# Altium footprint library IC.PcbLib: 24 footprints (part 2 of 2)
Each footprint in its own frame and in the unit in brackets; x right, y up, seen from the top. Pads: shape width x height; smd on the part's side, far side on the other; paste and mask are expansions set on the pad; w line width, h text height; cw(c..) or ccw(c..) is an arc to the next point about the centre after c.
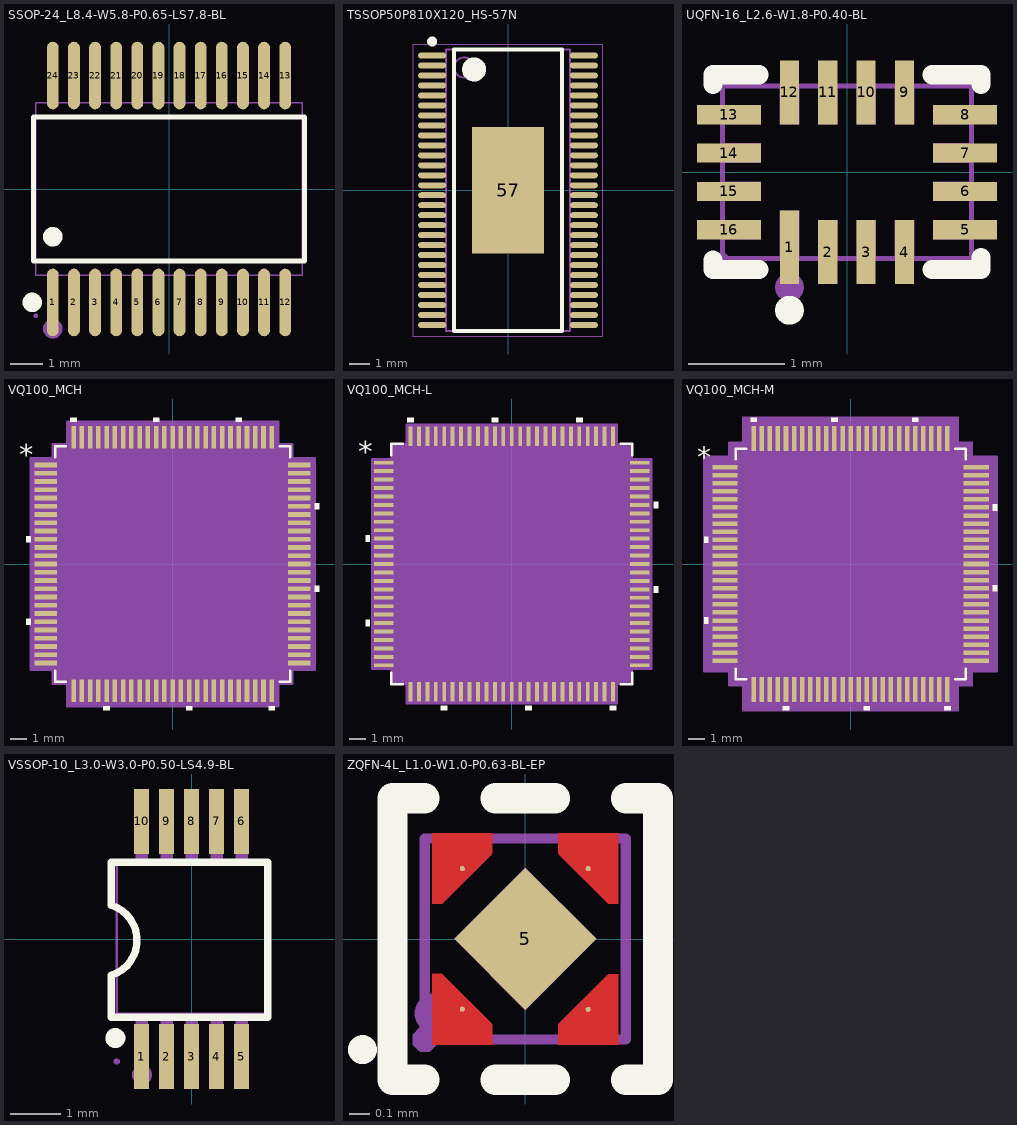
[diagram p1: the footprints below, top view; thin cyan lines are the x and y axes]

## SSOP-24_L8.4-W5.8-P0.65-LS7.8-BL [mm] "TB6612FNG"
pads (24):
  oval 0.364x2.082 smd mask+0.051: 1(-3.575,-3.491) 2(-2.925,-3.491) 3(-2.275,-3.491) 4(-1.625,-3.491) 5(-0.975,-3.491) 6(-0.325,-3.491) 7(0.325,-3.491) 8(0.975,-3.491) 9(1.625,-3.491) 10(2.275,-3.491) 11(2.925,-3.491) 12(3.575,-3.491) 13(3.575,3.491) 14(2.925,3.491) 15(2.275,3.491) 16(1.625,3.491) 17(0.975,3.491) 18(0.325,3.491) 19(-0.325,3.491) 20(-0.975,3.491) 21(-1.625,3.491) 22(-2.275,3.491) 23(-2.925,3.491) 24(-3.575,3.491)
Top Overlay:
  circle w0.3: c-4.209,-3.491 r0.15
  circle w0.3: c-3.575,-1.469 r0.15
  lines w0.152: -4.176,-2.221 4.176,-2.221 4.176,2.221 -4.176,2.221 -4.176,-2.221
Mechanical 6:
  circle w0.3: c-3.575,-4.3 r0.15
Mechanical 15:
  drawing of 53 lines, arcs and shapes, not listed
3D body "3D_PCB1_2023-02-25.step": height 1.61, standoff 0, extent -4.15,-3.8 4.15,3.8

## TSSOP50P810X120_HS-57N [mm] "TSSOP, 56-Leads, Body 14.00x6.10mm, Pitch 0.50mm, Thermal Pad 6.35x3.61mm, IPC Medium Density"
height 1.2
pads (57):
  oval 1.4x0.3 smd: 1(-3.8,6.75) 2(-3.8,6.25) 3(-3.8,5.75) 4(-3.8,5.25) 5(-3.8,4.75) 6(-3.8,4.25) 7(-3.8,3.75) 8(-3.8,3.25) 9(-3.8,2.75) 10(-3.8,2.25) 11(-3.8,1.75) 12(-3.8,1.25) 13(-3.8,0.75) 14(-3.8,0.25) 15(-3.8,-0.25) 16(-3.8,-0.75) 17(-3.8,-1.25) 18(-3.8,-1.75) 19(-3.8,-2.25) 20(-3.8,-2.75) 21(-3.8,-3.25) 22(-3.8,-3.75) 23(-3.8,-4.25) 24(-3.8,-4.75) 25(-3.8,-5.25) 26(-3.8,-5.75) 27(-3.8,-6.25) 28(-3.8,-6.75) 29(3.8,-6.75) 30(3.8,-6.25) 31(3.8,-5.75) 32(3.8,-5.25) 33(3.8,-4.75) 34(3.8,-4.25) 35(3.8,-3.75) 36(3.8,-3.25) 37(3.8,-2.75) 38(3.8,-2.25) 39(3.8,-1.75) 40(3.8,-1.25) 41(3.8,-0.75) 42(3.8,-0.25) 43(3.8,0.25) 44(3.8,0.75) 45(3.8,1.25) 46(3.8,1.75) 47(3.8,2.25) 48(3.8,2.75) 49(3.8,3.25) 50(3.8,3.75) 51(3.8,4.25) 52(3.8,4.75) 53(3.8,5.25) 54(3.8,5.75) 55(3.8,6.25) 56(3.8,6.75)
  rect 3.61x6.35 smd: 57(0,0)
Top Overlay:
  circle w0.6: c-1.7,6.05 r0.3
  circle w0.25: c-3.8,7.45 r0.125
  lines w0.2: -2.7,-7.05 2.7,-7.05 2.7,7.05 -2.7,7.05 -2.7,-7.05
Mechanical 13:
  circle w0.1: c-2.2,6.15 r0.5
  lines w0.1: -3.1,-7.05 3.1,-7.05 3.1,7.05 -3.1,7.05 -3.1,-7.05
Mechanical 15:
  lines w0.05: -4.75,-7.3 4.75,-7.3 4.75,7.3 -4.75,7.3 -4.75,-7.3
  lines w0.1: -0.5,0 0.5,0 ; 0,-0.5 0,0.5
3D body: height 1.2, standoff 0.05, extent -3.1,-7.05 3.1,7.05

## UQFN-16_L2.6-W1.8-P0.40-BL [mm]
pads (16):
  rect 0.2x0.765 smd: 1(-0.6,-0.782)
  rect 0.2x0.665 smd: 2(-0.2,-0.833) 3(0.2,-0.833) 4(0.6,-0.833) 9(0.6,0.833) 10(0.2,0.833) 11(-0.2,0.833) 12(-0.6,0.833)
  rect 0.665x0.2 smd: 5(1.232,-0.6) 6(1.232,-0.2) 7(1.232,0.2) 8(1.232,0.6) 13(-1.232,0.6) 14(-1.232,0.2) 15(-1.232,-0.2) 16(-1.232,-0.6)
Top Overlay:
  circle w0.15: c-0.6,-1.44 r0.075
  lines w0.2: -1.397,-0.916 -1.397,-1.016 -0.916,-1.016 ; -1.397,0.916 -1.397,1.016 -0.916,1.016 ; 0.889,-1.016 1.397,-1.016 1.397,-0.889 ; 0.889,1.016 1.397,1.016 1.397,0.916
Mechanical 6:
  circle w0.15: c-0.6,-1.2 r0.075
Mechanical 15:
  region: -0.7,-0.9 -0.5,-0.9 -0.5,-0.4 -0.7,-0.4
  region: -0.9,-0.7 -0.9,-0.5 -1.3,-0.5 -1.3,-0.7
  region: -0.9,-0.3 -0.9,-0.1 -1.3,-0.1 -1.3,-0.3
  region: -0.9,0.1 -0.9,0.3 -1.3,0.3 -1.3,0.1
  region: -0.9,0.5 -0.9,0.7 -1.3,0.7 -1.3,0.5
  region: -0.7,0.9 -0.7,0.5 -0.5,0.5 -0.5,0.9
  region: -0.3,0.9 -0.3,0.5 -0.1,0.5 -0.1,0.9
  region: 0.1,0.9 0.1,0.5 0.3,0.5 0.3,0.9
  region: 0.5,0.9 0.5,0.5 0.7,0.5 0.7,0.9
  region: 0.9,0.5 0.9,0.7 1.3,0.7 1.3,0.5
  region: 0.9,0.1 0.9,0.3 1.3,0.3 1.3,0.1
  region: 0.9,-0.3 0.9,-0.1 1.3,-0.1 1.3,-0.3
  region: 0.9,-0.7 0.9,-0.5 1.3,-0.5 1.3,-0.7
  region: 0.5,-0.9 0.5,-0.5 0.7,-0.5 0.7,-0.9
  region: 0.1,-0.9 0.1,-0.5 0.3,-0.5 0.3,-0.9
  region: -0.3,-0.9 -0.3,-0.5 -0.1,-0.5 -0.1,-0.9
  region: -1.24,-0.9 -1.24,-0.875 -1.275,-0.84 -1.325,-0.84 -1.36,-0.875 -1.36,-0.9 -1.36,-0.925 -1.325,-0.96 -1.275,-0.96 -1.24,-0.925
  lines w0.051: -1.3,-0.9 1.3,-0.9 1.3,0.9 -1.3,0.9 -1.3,-0.9

## VQ100_MCH [mil]
pads (100):
  rect 53.5x11 smd paste+0 mask+0: 1(-302.25,236.22) 2(-302.25,216.54) 3(-302.25,196.85) 4(-302.25,177.17) 5(-302.25,157.48) 6(-302.25,137.8) 7(-302.25,118.11) 8(-302.25,98.43) 9(-302.25,78.74) 10(-302.25,59.06) 11(-302.25,39.37) 12(-302.25,19.69) 13(-302.25,0) 14(-302.25,-19.68) 15(-302.25,-39.37) 16(-302.25,-59.06) 17(-302.25,-78.74) 18(-302.25,-98.43) 19(-302.25,-118.11) 20(-302.25,-137.8) 21(-302.25,-157.48) 22(-302.25,-177.17) 23(-302.25,-196.85) 24(-302.25,-216.54) 25(-302.25,-236.22) 51(302.25,-236.22) 52(302.25,-216.54) 53(302.25,-196.85) 54(302.25,-177.17) 55(302.25,-157.48) 56(302.25,-137.8) 57(302.25,-118.11) 58(302.25,-98.43) 59(302.25,-78.74) 60(302.25,-59.06) 61(302.25,-39.37) 62(302.25,-19.68) 63(302.25,0) 64(302.25,19.68) 65(302.25,39.37) 66(302.25,59.06) 67(302.25,78.74) 68(302.25,98.43) 69(302.25,118.11) 70(302.25,137.8) 71(302.25,157.48) 72(302.25,177.17) 73(302.25,196.85) 74(302.25,216.54) 75(302.25,236.22)
  rect 11x53.5 smd paste+0 mask+0: 26(-236.22,-302.25) 27(-216.54,-302.25) 28(-196.85,-302.25) 29(-177.17,-302.25) 30(-157.48,-302.25) 31(-137.8,-302.25) 32(-118.11,-302.25) 33(-98.43,-302.25) 34(-78.74,-302.25) 35(-59.06,-302.25) 36(-39.37,-302.25) 37(-19.68,-302.25) 38(0,-302.25) 39(19.68,-302.25) 40(39.37,-302.25) 41(59.06,-302.25) 42(78.74,-302.25) 43(98.43,-302.25) 44(118.11,-302.25) 45(137.8,-302.25) 46(157.48,-302.25) 47(177.17,-302.25) 48(196.85,-302.25) 49(216.54,-302.25) 50(236.22,-302.25) 76(236.22,302.25) 77(216.54,302.25) 78(196.85,302.25) 79(177.17,302.25) 80(157.48,302.25) 81(137.8,302.25) 82(118.11,302.25) 83(98.43,302.25) 84(78.74,302.25) 85(59.06,302.25) 86(39.37,302.25) 87(19.68,302.25) 88(0,302.25) 89(-19.68,302.25) 90(-39.37,302.25) 91(-59.06,302.25) 92(-78.74,302.25) 93(-98.43,302.25) 94(-118.11,302.25) 95(-137.8,302.25) 96(-157.48,302.25) 97(-177.17,302.25) 98(-196.85,302.25) 99(-216.54,302.25) 100(-236.22,302.25)
Top Overlay:
  region: -228.72,339 -243.72,339 -243.72,349 -228.72,349
  region: -31.87,339 -46.87,339 -46.87,349 -31.87,349
  region: 164.98,339 149.98,339 149.98,349 164.98,349
  region: 339,145.3 349,145.3 349,130.3 339,130.3
  region: 339,-51.56 349,-51.56 349,-66.56 339,-66.56
  region: 243.72,-339 228.72,-339 228.72,-349 243.72,-349
  region: 46.87,-339 31.87,-339 31.87,-349 46.87,-349
  region: -149.98,-339 -164.98,-339 -164.98,-349 -149.98,-349
  region: -339,-130.3 -349,-130.3 -349,-145.3 -339,-145.3
  region: -339,66.56 -349,66.56 -349,51.56 -339,51.56
  lines w6: -280.5,-254.82 -280.5,-280.5 -254.82,-280.5 ; -280.5,254.82 -280.5,280.5 -254.82,280.5 ; 254.82,-280.5 280.5,-280.5 280.5,-254.82 ; 254.82,280.5 280.5,280.5 280.5,254.82
  text "*" at -366.5,236.06 h50
Mechanical 13:
  drawing of 405 lines, arcs and shapes, not listed
  text "*" at -273,221.06 h50
Mechanical 15:
  region: -251.72,-285.5 -285.5,-285.5 -285.5,-251.72 -339,-251.72 -339,251.72 -285.5,251.72 -285.5,285.5 -251.72,285.5 -251.72,339 251.72,339 251.72,285.5 285.5,285.5 285.5,251.72 339,251.72 339,-251.72 285.5,-251.72 285.5,-285.5 251.72,-285.5 251.72,-339 -251.72,-339
  lines w6: -339,-251.72 -339,251.72 -285.5,251.72 -285.5,285.5 -251.72,285.5 -251.72,339 251.72,339 251.72,285.5 285.5,285.5 285.5,251.72 339,251.72 339,-251.72 285.5,-251.72 285.5,-285.5 251.72,-285.5 251.72,-339 -251.72,-339 -251.72,-285.5 -285.5,-285.5 -285.5,-251.72 -339,-251.72
3D body "VQ100_MCH.step": height 47.09, standoff 0, extent -315,-315 315,315

## VQ100_MCH-L [mil]
pads (100):
  rect 45.5x9 smd paste+0 mask+0: 1(-298.25,236.22) 2(-298.25,216.54) 3(-298.25,196.85) 4(-298.25,177.17) 5(-298.25,157.48) 6(-298.25,137.8) 7(-298.25,118.11) 8(-298.25,98.43) 9(-298.25,78.74) 10(-298.25,59.06) 11(-298.25,39.37) 12(-298.25,19.69) 13(-298.25,0) 14(-298.25,-19.68) 15(-298.25,-39.37) 16(-298.25,-59.06) 17(-298.25,-78.74) 18(-298.25,-98.43) 19(-298.25,-118.11) 20(-298.25,-137.8) 21(-298.25,-157.48) 22(-298.25,-177.17) 23(-298.25,-196.85) 24(-298.25,-216.54) 25(-298.25,-236.22) 51(298.25,-236.22) 52(298.25,-216.54) 53(298.25,-196.85) 54(298.25,-177.17) 55(298.25,-157.48) 56(298.25,-137.8) 57(298.25,-118.11) 58(298.25,-98.43) 59(298.25,-78.74) 60(298.25,-59.06) 61(298.25,-39.37) 62(298.25,-19.68) 63(298.25,0) 64(298.25,19.68) 65(298.25,39.37) 66(298.25,59.06) 67(298.25,78.74) 68(298.25,98.43) 69(298.25,118.11) 70(298.25,137.8) 71(298.25,157.48) 72(298.25,177.17) 73(298.25,196.85) 74(298.25,216.54) 75(298.25,236.22)
  rect 9x45.5 smd paste+0 mask+0: 26(-236.22,-298.25) 27(-216.54,-298.25) 28(-196.85,-298.25) 29(-177.17,-298.25) 30(-157.48,-298.25) 31(-137.8,-298.25) 32(-118.11,-298.25) 33(-98.43,-298.25) 34(-78.74,-298.25) 35(-59.06,-298.25) 36(-39.37,-298.25) 37(-19.68,-298.25) 38(0,-298.25) 39(19.68,-298.25) 40(39.37,-298.25) 41(59.06,-298.25) 42(78.74,-298.25) 43(98.43,-298.25) 44(118.11,-298.25) 45(137.8,-298.25) 46(157.48,-298.25) 47(177.17,-298.25) 48(196.85,-298.25) 49(216.54,-298.25) 50(236.22,-298.25) 76(236.22,298.25) 77(216.54,298.25) 78(196.85,298.25) 79(177.17,298.25) 80(157.48,298.25) 81(137.8,298.25) 82(118.11,298.25) 83(98.43,298.25) 84(78.74,298.25) 85(59.06,298.25) 86(39.37,298.25) 87(19.68,298.25) 88(0,298.25) 89(-19.68,298.25) 90(-39.37,298.25) 91(-59.06,298.25) 92(-78.74,298.25) 93(-98.43,298.25) 94(-118.11,298.25) 95(-137.8,298.25) 96(-157.48,298.25) 97(-177.17,298.25) 98(-196.85,298.25) 99(-216.54,298.25) 100(-236.22,298.25)
Top Overlay:
  region: -331,66.56 -341,66.56 -341,51.56 -331,51.56
  region: -331,-130.3 -341,-130.3 -341,-145.3 -331,-145.3
  region: -149.98,-331 -164.98,-331 -164.98,-341 -149.98,-341
  region: 46.87,-331 31.87,-331 31.87,-341 46.87,-341
  region: 243.72,-331 228.72,-331 228.72,-341 243.72,-341
  region: 331,-51.56 341,-51.56 341,-66.56 331,-66.56
  region: 331,145.3 341,145.3 341,130.3 331,130.3
  region: 164.98,331 149.98,331 149.98,341 164.98,341
  region: -31.87,331 -46.87,331 -46.87,341 -31.87,341
  region: -228.72,331 -243.72,331 -243.72,341 -228.72,341
  lines w6: -280.5,-253.82 -280.5,-280.5 -253.82,-280.5 ; -280.5,253.82 -280.5,280.5 -253.82,280.5 ; 253.82,-280.5 280.5,-280.5 280.5,-253.82 ; 253.82,280.5 280.5,280.5 280.5,253.82
  text "*" at -358.5,236.06 h50
Mechanical 13:
  drawing of 405 lines, arcs and shapes, not listed
  text "*" at -273,221.06 h50
Mechanical 15:
  region: -244.72,-279.5 -279.5,-279.5 -279.5,-244.72 -325,-244.72 -325,244.72 -279.5,244.72 -279.5,279.5 -244.72,279.5 -244.72,325 244.72,325 244.72,279.5 279.5,279.5 279.5,244.72 325,244.72 325,-244.72 279.5,-244.72 279.5,-279.5 244.72,-279.5 244.72,-325 -244.72,-325
  lines w6: -325,-244.72 -279.5,-244.72 -279.5,-279.5 -244.72,-279.5 -244.72,-325 244.72,-325 244.72,-279.5 279.5,-279.5 279.5,-244.72 325,-244.72 325,244.72 279.5,244.72 279.5,279.5 244.72,279.5 244.72,325 -244.72,325 -244.72,279.5 -279.5,279.5 -279.5,244.72 -325,244.72 -325,-244.72
3D body "VQ100_MCH.step": height 47.09, standoff 0, extent -315,-315 315,315

## VQ100_MCH-M [mil]
pads (100):
  rect 61.5x11 smd paste+0 mask+0: 1(-306.25,236.22) 2(-306.25,216.54) 3(-306.25,196.85) 4(-306.25,177.17) 5(-306.25,157.48) 6(-306.25,137.8) 7(-306.25,118.11) 8(-306.25,98.43) 9(-306.25,78.74) 10(-306.25,59.06) 11(-306.25,39.37) 12(-306.25,19.69) 13(-306.25,0) 14(-306.25,-19.68) 15(-306.25,-39.37) 16(-306.25,-59.06) 17(-306.25,-78.74) 18(-306.25,-98.43) 19(-306.25,-118.11) 20(-306.25,-137.8) 21(-306.25,-157.48) 22(-306.25,-177.17) 23(-306.25,-196.85) 24(-306.25,-216.54) 25(-306.25,-236.22) 51(306.25,-236.22) 52(306.25,-216.54) 53(306.25,-196.85) 54(306.25,-177.17) 55(306.25,-157.48) 56(306.25,-137.8) 57(306.25,-118.11) 58(306.25,-98.43) 59(306.25,-78.74) 60(306.25,-59.06) 61(306.25,-39.37) 62(306.25,-19.68) 63(306.25,0) 64(306.25,19.68) 65(306.25,39.37) 66(306.25,59.06) 67(306.25,78.74) 68(306.25,98.43) 69(306.25,118.11) 70(306.25,137.8) 71(306.25,157.48) 72(306.25,177.17) 73(306.25,196.85) 74(306.25,216.54) 75(306.25,236.22)
  rect 11x61.5 smd paste+0 mask+0: 26(-236.22,-306.25) 27(-216.54,-306.25) 28(-196.85,-306.25) 29(-177.17,-306.25) 30(-157.48,-306.25) 31(-137.8,-306.25) 32(-118.11,-306.25) 33(-98.43,-306.25) 34(-78.74,-306.25) 35(-59.06,-306.25) 36(-39.37,-306.25) 37(-19.68,-306.25) 38(0,-306.25) 39(19.68,-306.25) 40(39.37,-306.25) 41(59.06,-306.25) 42(78.74,-306.25) 43(98.43,-306.25) 44(118.11,-306.25) 45(137.8,-306.25) 46(157.48,-306.25) 47(177.17,-306.25) 48(196.85,-306.25) 49(216.54,-306.25) 50(236.22,-306.25) 76(236.22,306.25) 77(216.54,306.25) 78(196.85,306.25) 79(177.17,306.25) 80(157.48,306.25) 81(137.8,306.25) 82(118.11,306.25) 83(98.43,306.25) 84(78.74,306.25) 85(59.06,306.25) 86(39.37,306.25) 87(19.68,306.25) 88(0,306.25) 89(-19.68,306.25) 90(-39.37,306.25) 91(-59.06,306.25) 92(-78.74,306.25) 93(-98.43,306.25) 94(-118.11,306.25) 95(-137.8,306.25) 96(-157.48,306.25) 97(-177.17,306.25) 98(-196.85,306.25) 99(-216.54,306.25) 100(-236.22,306.25)
Top Overlay:
  region: -228.72,347 -243.72,347 -243.72,357 -228.72,357
  region: -31.87,347 -46.87,347 -46.87,357 -31.87,357
  region: 164.98,347 149.98,347 149.98,357 164.98,357
  region: 347,145.3 357,145.3 357,130.3 347,130.3
  region: 347,-51.56 357,-51.56 357,-66.56 347,-66.56
  region: 243.72,-347 228.72,-347 228.72,-357 243.72,-357
  region: 46.87,-347 31.87,-347 31.87,-357 46.87,-357
  region: -149.98,-347 -164.98,-347 -164.98,-357 -149.98,-357
  region: -347,-130.3 -357,-130.3 -357,-145.3 -347,-145.3
  region: -347,66.56 -357,66.56 -357,51.56 -347,51.56
  lines w6: -280.5,-254.82 -280.5,-280.5 -254.82,-280.5 ; -280.5,254.82 -280.5,280.5 -254.82,280.5 ; 254.82,-280.5 280.5,-280.5 280.5,-254.82 ; 254.82,280.5 280.5,280.5 280.5,254.82
  text "*" at -374.5,236.06 h50
Mechanical 13:
  drawing of 405 lines, arcs and shapes, not listed
  text "*" at -273,221.06 h50
Mechanical 15:
  region: -261.72,-295.5 -295.5,-295.5 -295.5,-261.72 -357,-261.72 -357,261.72 -295.5,261.72 -295.5,295.5 -261.72,295.5 -261.72,357 261.72,357 261.72,295.5 295.5,295.5 295.5,261.72 357,261.72 357,-261.72 295.5,-261.72 295.5,-295.5 261.72,-295.5 261.72,-357 -261.72,-357
  lines w6: -357,-261.72 -357,261.72 -295.5,261.72 -295.5,295.5 -261.72,295.5 -261.72,357 261.72,357 261.72,295.5 295.5,295.5 295.5,261.72 357,261.72 357,-261.72 295.5,-261.72 295.5,-295.5 261.72,-295.5 261.72,-357 -261.72,-357 -261.72,-295.5 -295.5,-295.5 -295.5,-261.72 -357,-261.72
3D body "VQ100_MCH.step": height 47.09, standoff 0, extent -315,-315 315,315

## VSSOP-10_L3.0-W3.0-P0.50-LS4.9-BL [mm]
pads (10):
  rect 0.3x1.3 smd paste+0 mask+0.015: 1(-1,-2.35) 2(-0.5,-2.35) 3(0,-2.35) 4(0.5,-2.35) 5(1,-2.35)
  rect 0.3x1.3 smd: 6(1,2.35) 7(0.5,2.35) 8(0,2.35) 9(-0.5,2.35) 10(-1,2.35)
Top Overlay:
  circle w0.2: c-1.524,-1.981 r0.1
  lines w0.15: -1.603,-1.562 -1.603,-0.724 ccw(c-1.82,-0.026) -1.603,0.673 ; -1.603,0.698 -1.603,1.537 ; -1.578,-1.562 1.522,-1.562 ; -1.578,1.537 1.522,1.537 1.522,-1.564
Mechanical 6:
  circle w0.2: c-0.99,-2.718 r0.1
Mechanical 15:
  region: -1.44,-2.45 -1.44,-2.425 -1.475,-2.39 -1.525,-2.39 -1.56,-2.425 -1.56,-2.45 -1.56,-2.475 -1.525,-2.51 -1.475,-2.51 -1.44,-2.475
  region: -1.12,1.49 -1.12,1.91 -0.88,1.91 -0.88,1.49
  region: -1.12,1.9 -1.12,2.45 -0.88,2.45 -0.88,1.9
  region: -0.62,1.49 -0.62,1.91 -0.38,1.91 -0.38,1.49
  region: -0.62,1.9 -0.62,2.45 -0.38,2.45 -0.38,1.9
  region: -0.12,1.49 -0.12,1.91 0.12,1.91 0.12,1.49
  region: -0.12,1.9 -0.12,2.45 0.12,2.45 0.12,1.9
  region: 0.38,1.49 0.38,1.91 0.62,1.91 0.62,1.49
  region: 0.38,1.9 0.38,2.45 0.62,2.45 0.62,1.9
  region: 0.88,1.49 0.88,1.91 1.12,1.91 1.12,1.49
  region: 0.88,1.9 0.88,2.45 1.12,2.45 1.12,1.9
  region: 0.88,-1.91 0.88,-1.49 1.12,-1.49 1.12,-1.91
  region: 0.88,-2.45 0.88,-1.9 1.12,-1.9 1.12,-2.45
  region: 0.38,-1.91 0.38,-1.49 0.62,-1.49 0.62,-1.91
  region: 0.38,-2.45 0.38,-1.9 0.62,-1.9 0.62,-2.45
  region: -0.12,-1.91 -0.12,-1.49 0.12,-1.49 0.12,-1.91
  region: -0.12,-2.45 -0.12,-1.9 0.12,-1.9 0.12,-2.45
  region: -0.62,-1.91 -0.62,-1.49 -0.38,-1.49 -0.38,-1.91
  region: -0.62,-2.45 -0.62,-1.9 -0.38,-1.9 -0.38,-2.45
  region: -1.12,-1.91 -1.12,-1.49 -0.88,-1.49 -0.88,-1.91
  region: -1.12,-2.45 -1.12,-1.9 -0.88,-1.9 -0.88,-2.45
  lines w0.051: -1.5,-1.5 1.5,-1.5 1.5,1.5 -1.5,1.5 -1.5,-1.5

## ZQFN-4L_L1.0-W1.0-P0.63-BL-EP [mil]
pads (5):
  round 1 smd: 1(-12.33,-13.75) 2(12.32,-13.78) 3(12.32,13.78) 4(-12.33,13.78)
  rect 19.68x19.68 smd rot 45: 5(-0.01,0.01)
Top Layer:
  region: 18.22,-6.88 18.22,-20.67 6.41,-20.67 6.41,-16.73 16.25,-6.88
  region: -6.42,-20.67 -18.23,-20.67 -18.23,-6.83 -16.32,-6.83 -6.42,-16.73
  region: -18.23,6.89 -18.23,20.67 -6.42,20.67 -6.42,18.71 -6.42,16.74 -16.27,6.89
  region: 6.41,20.67 18.22,20.67 18.22,6.89 16.25,6.89 6.41,16.74
Top Overlay:
  circle w3.94: c-31.89,-21.66 r0.87
  lines w5.91: -19.74,-27.56 -25.98,-27.56 -25.98,27.56 -19.74,27.56 ; -5.86,-27.56 5.85,-27.56 ; -5.86,27.56 5.85,27.56 ; 19.73,-27.56 25.98,-27.56 25.98,27.56 19.73,27.56
Mechanical 6:
  circle w3.94: c-17.72,-14.57 r1.97
Mechanical 15:
  region: 18.11,19.69 18.11,7.48 15.75,7.48 6.7,16.54 6.7,19.69
  region: -18.11,19.68 -18.11,7.48 -15.75,7.48 -6.69,16.54 -6.69,19.68
  region: -18.1,-19.68 -18.1,-7.48 -15.74,-7.48 -6.69,-16.53 -6.69,-19.68
  region: 18.11,-19.68 18.11,-7.48 15.75,-7.48 6.69,-16.54 6.69,-19.68
  region: -13.92,0.01 -0.01,13.92 13.91,0.01 -0.01,-13.91
  region: -17.33,-19.68 -17.33,-18.71 -18.71,-17.32 -20.67,-17.32 -22.05,-18.71 -22.05,-19.68 -22.05,-20.66 -20.67,-22.05 -18.71,-22.05 -17.33,-20.66
  lines w2: -19.69,-19.68 19.68,-19.68 19.68,19.68 -19.69,19.68 -19.69,-19.68
3D body "3d_pcb1_2023-12-06_asm.stp": height 13.82, standoff 0, extent -20,-19.69 19.37,19.68